# Altium schematic symbol library SM07B-SRSS-TB_LF__SN_.SchLib: 1 symbol
Pins are listed as number, name and electrical type; pins without a type are passive.

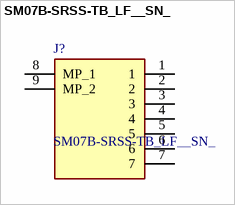
[diagram p0: symbol SM07B-SRSS-TB_LF__SN_]

## SM07B-SRSS-TB_LF__SN_
designator J?
Connector Header Surface Mount, Right Angle 7 position 0.039" (1.00mm); Manufacturer_Name: JST (JAPAN SOLDERLESS TERMINALS); Manufacturer_Part_Number: SM07B-SRSS-TB(LF)(SN); Geometry.Height: 2.95mm; Mouser Part Number: N/A; Mouser Price/Stock: https://www.mouser.co.uk/ProductDetail/JST-Commercial/SM07B-SRSS-TBLFSN?qs=QpmGXVUTftFKhPFIBzZDQw%3D%3D; Datasheet Link: http://www.jst-mfg.com/product/pdf/eng/eSH.pdf
footprint SM07BSRSSTBLFSN
pins: 1, 2, 3, 4, 5, 6, 7, 8 MP_1, 9 MP_2